# Altium schematic symbol library Resistor_1206.SchLib: 3 symbols
Pins are listed as number, name and electrical type; pins without a type are passive.

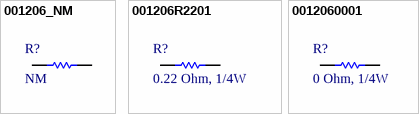
[diagram p0: symbols 001206_NM to 0012060001]

## 001206_NM
designator R?, comment NM
RES, size 1206, NM; Packaging: Tape and Reel; Supplier 1: Mouser; Supplier 1 Part Number: N/A; Supplier 1 URL: N/A; Supplier 2: Digi-Key; Supplier 2 Part Number: N/A; Supplier 2 URL: N/A; Supplier 3: thegioiic; Supplier 3 Part Number: N/A; Supplier 3 URL: N/A; Tolerance: N/A; Value: NM; Manufacturer: N/A; Manufacturer Part Number: N/A; ComponentLink1Description: Datasheet; ComponentLink1URL: N/A; Mount: SMD/SMT; Operating Temperature Max: + 85 C; Operating Temperature Min: - 40 C; Package / Case: 1206; LCSC Part #: N/A
footprint RES_1206 (Footprint not found)
pins: 1, 2

## 001206R2201
designator R?, comment 0.22 Ohm, 1/4W
RES, size 1206, 0.22 Ohm, 1/4W; Manufacturer: YAGEO; Manufacturer Part Number: RL1206FR-070R22L; Tolerance: +/-1%; Packaging: Tape and Reel; Supplier 1: Mouser; Supplier 1 Part Number: 603-RL1206FR070R22L; Supplier 1 URL: https://www.mouser.com/ProductDetail/YAGEO/RL1206FR-070R22L?qs=H6bTqIa4pvU6CLk85z%252BSHA%3D%3D; Supplier 2: Digi-Key; Supplier 2 Part Number: N/A; Supplier 2 URL: N/A; Supplier 3: thegioiic; Supplier 3 Part Number: N/A; Supplier 3 URL: N/A; Value: 0.22 Ohm; ComponentLink1Description: Datasheet; ComponentLink1URL: https://www.mouser.com/datasheet/2/447/PYu_RL_Group_521_RoHS_L_2-3002987.pdf; Mount: SMD/SMT; Operating Temperature Max: + 85 C; Operating Temperature Min: - 40 C; Package / Case: 1206; LCSC Part #: C155692; Rated Power: 1/4 W
footprint RES_1206 (Footprint not found)
signal-integrity model Resistor Model
simulation model R_Resistor_Default (Model Description)
pins: 1, 2

## 0012060001
designator R?, comment 0 Ohm, 1/4W
RES, size 1206, 0 Ohm, 1/4W; Tolerance: +/-1%; Value: 0 Ohm; Packaging: Tape and Reel; Supplier 1: Mouser; Supplier 1 Part Number: N/A; Supplier 1 URL: N/A; Supplier 2: Digi-Key; Supplier 2 Part Number: N/A; Supplier 2 URL: N/A; Supplier 3: thegioiic; Supplier 3 Part Number: N/A; Supplier 3 URL: N/A; Manufacturer: N/A; Manufacturer Part Number: N/A; ComponentLink1Description: Datasheet; ComponentLink1URL: N/A; Mount: SMD/SMT; Operating Temperature Max: + 85 C; Operating Temperature Min: - 40 C; Package / Case: 1206; LCSC Part #: N/A; Rated Power: 1/4 W
footprint RES_1206 (Footprint not found)
signal-integrity model Resistor Model
simulation model R_Resistor_Default (Model Description)
pins: 1, 2